# EAGLE library part TL074 (library IC & Transistor)
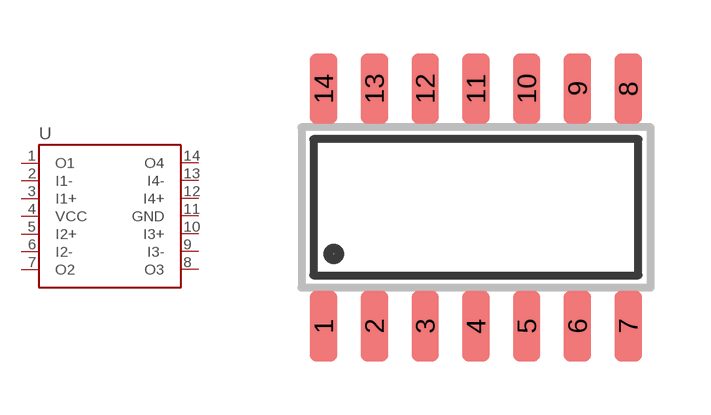
[diagram p23: symbol with the pads of SOIC-14N; footprint SOIC-14N]

Designator prefix U

## TL074_(SOIC) (CYTRON-PC: S-IC-TL074CD-SO14; DESC: S 4 Ch Op Amps TL074CD SO14; MF: ST; MPN: TL074CD)  [SOIC-14N]
1  O1
2  I1-
3  I1+
4  VCC
5  I2+
6  I2-
7  O2
8  O3
9  I3-
10  I3+
11  GND
12  I4+
13  I4-
14  O4

## Footprint SOIC-14N (pad centres in mm)
Small Outline Integrated Circuit (SOIC) Narrow (JEDEC) SOIC Package Size: 8.65 x 3.90mm Lead Pitch: 1.27mm Created by: Idris Modified by: Wai Weng 1. Changed the orientation.
smd 0.686 x 1.778: 1 -3.81,-2.972; 2 -2.54,-2.972; 3 -1.27,-2.972; 4 0,-2.972; 5 1.27,-2.972; 6 2.54,-2.972; 7 3.81,-2.972; 8 3.81,2.972; 9 2.54,2.972; 10 1.27,2.972; 11 0,2.972; 12 -1.27,2.972; 13 -2.54,2.972; 14 -3.81,2.972